# EAGLE library part MCP1727T-3302E/SN (library MCP1727T-3302E_SN)
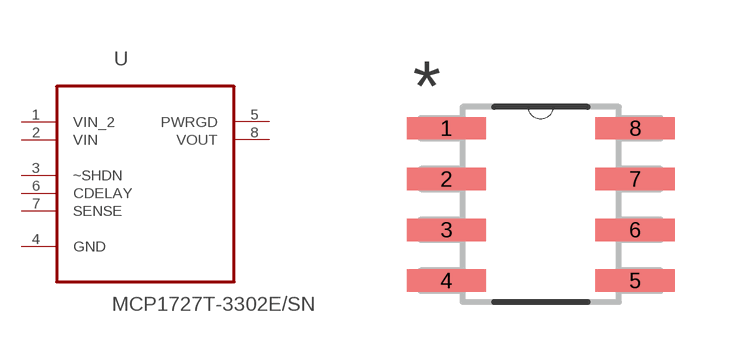
[diagram p0: symbol with the pads of SOIC127P490X175-8N; footprint SOIC127P490X175-8N]

Designator prefix -

## MCP1727T-3302E/SN (MPN: MCP1727T-3302E/SN; OC_FARNELL: 1331497; OC_NEWARK: 34M7431; PACKAGE: SOIC-8; SUPPLIER: Microchip)  [SOIC127P490X175-8N]
1  VIN_2  pwr
2  VIN  pwr
3  ~SHDN  in
4  GND  pas
5  PWRGD  out
6  CDELAY  in
7  SENSE  in
8  VOUT  out

## Footprint SOIC127P490X175-8N (pad centres in mm)
smd 1.981 x 0.559: 1 -2.362,1.905; 2 -2.362,0.635; 3 -2.362,-0.635; 4 -2.362,-1.905; 5 2.362,-1.905; 6 2.362,-0.635; 7 2.362,0.635; 8 2.362,1.905